# EAGLE library part L7986TR (library L7986TR)
STMICROELECTRONICS - L7986TR - DC/DC CONV, BUCK, 250KHZ, VFQFN-10 Source: Datasheet <http://www.st.com/content/ccc/resource/technical/document/datasheet/f4/de/ae/ae/a3/9b/40/d9/DM00041568.pdf/files/DM00041568.pdf/jcr:content/translations/en.DM00041568.pdf>
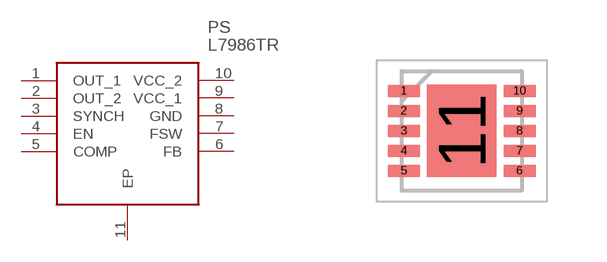
[diagram p0: symbol with the pads of SON50P300X300X100-11N; footprint SON50P300X300X100-11N]

Designator prefix PS

## L7986TR (Description: STMICROELECTRONICS - L7986TR - DC/DC CONV, BUCK, 250KHZ, VFQFN-10; Height: 1mm; Manufacturer_Name: STMicroelectronics; Manufacturer_Part_Number: L7986TR; Mouser_Part_Number: 511-L7986TR; Mouser_Price-Stock: https://www.mouser.co.uk/ProductDetail/STMicroelectronics/L7986TR?qs=2YQBRVeZizJbRiSxRz10mg%3D%3D)  [SON50P300X300X100-11N]
1  OUT_1
2  OUT_2
3  SYNCH
4  EN
5  COMP
6  FB
7  FSW
8  GND
9  VCC_1
10  VCC_2
11  EP

## Footprint SON50P300X300X100-11N (pad centres in mm)
VFQFPN10 (3 x 3 x 1.08 mm)
smd 0.8 x 0.3: 1 -1.45,1; 2 -1.45,0.5; 3 -1.45,0; 4 -1.45,-0.5; 5 -1.45,-1; 6 1.45,-1; 7 1.45,-0.5; 8 1.45,0; 9 1.45,0.5; 10 1.45,1
smd 1.74 x 2.31: 11 0,0